# Altium schematic symbol library SZH_SSBH_006.SchLib: 1 symbol
Pins are listed as number, name and electrical type; pins without a type are passive.

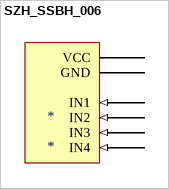
[diagram p0: symbol SZH_SSBH_006]

## SZH_SSBH_006
designator *
pins: VSS VCC (power), VSS GND (power), VSS IN1 (in), VSS IN2 (in), VSS IN3 (in), VSS IN4 (in)